# Altium integrated library DIO.IntLib: 2 symbols
Pins are listed as number, name and electrical type; pins without a type are passive.

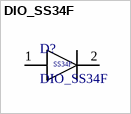
[diagram p0: symbol DIO_SS34F]

## DIO_SS34F
designator D?
footprint DIO_SS34F (Molded Diode, 2-Leads, Body 3.5x2.6mm, IPC Medium Density)
pins: 1, 2
text: SS34F


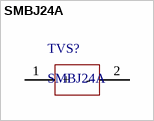
[diagram p1: symbol SMBJ24A]

## SMBJ24A
designator TVS?
footprint SMBJ24A(DIOM4336X24N) (Molded Diode, 2-Leads, Body 4.3x3.6mm, IPC Medium Density)
pins: 1 +, 2 -